# Altium footprint library KEMET_FT0H105ZF.PcbLib: 1 footprints
Each footprint in its own frame and in the unit in brackets; x right, y up, seen from the top. Pads: shape width x height; smd on the part's side, far side on the other; paste and mask are expansions set on the pad; w line width, h text height; cw(c..) or ccw(c..) is an arc to the next point about the centre after c.
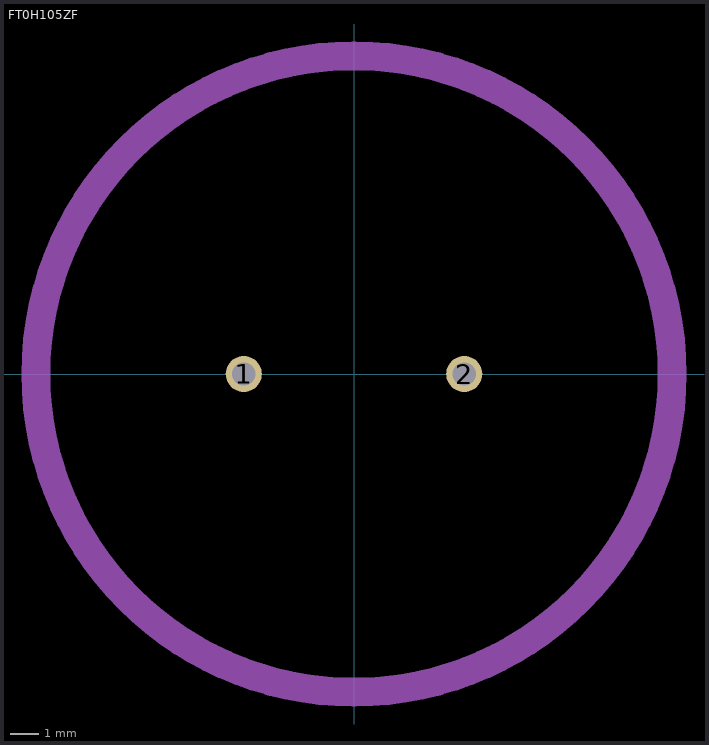
[diagram p0: the footprint, top view; thin cyan lines are the x and y axes]

## FT0H105ZF [mm]
pads (2):
  round 1.25 hole 0.8: 1(-3.81,0) 2(3.81,0)
Mechanical 1:
  circle w1: c0,0 r11
  text "-" at 7.62,0 h1.52
  text "+" at -7.62,0 h1.52